# Altium footprint library myLIB.PcbLib: 150 footprints (part 2 of 10)
Each footprint in its own frame and in the unit in brackets; x right, y up, seen from the top. Pads: shape width x height; smd on the part's side, far side on the other; paste and mask are expansions set on the pad; w line width, h text height; cw(c..) or ccw(c..) is an arc to the next point about the centre after c.
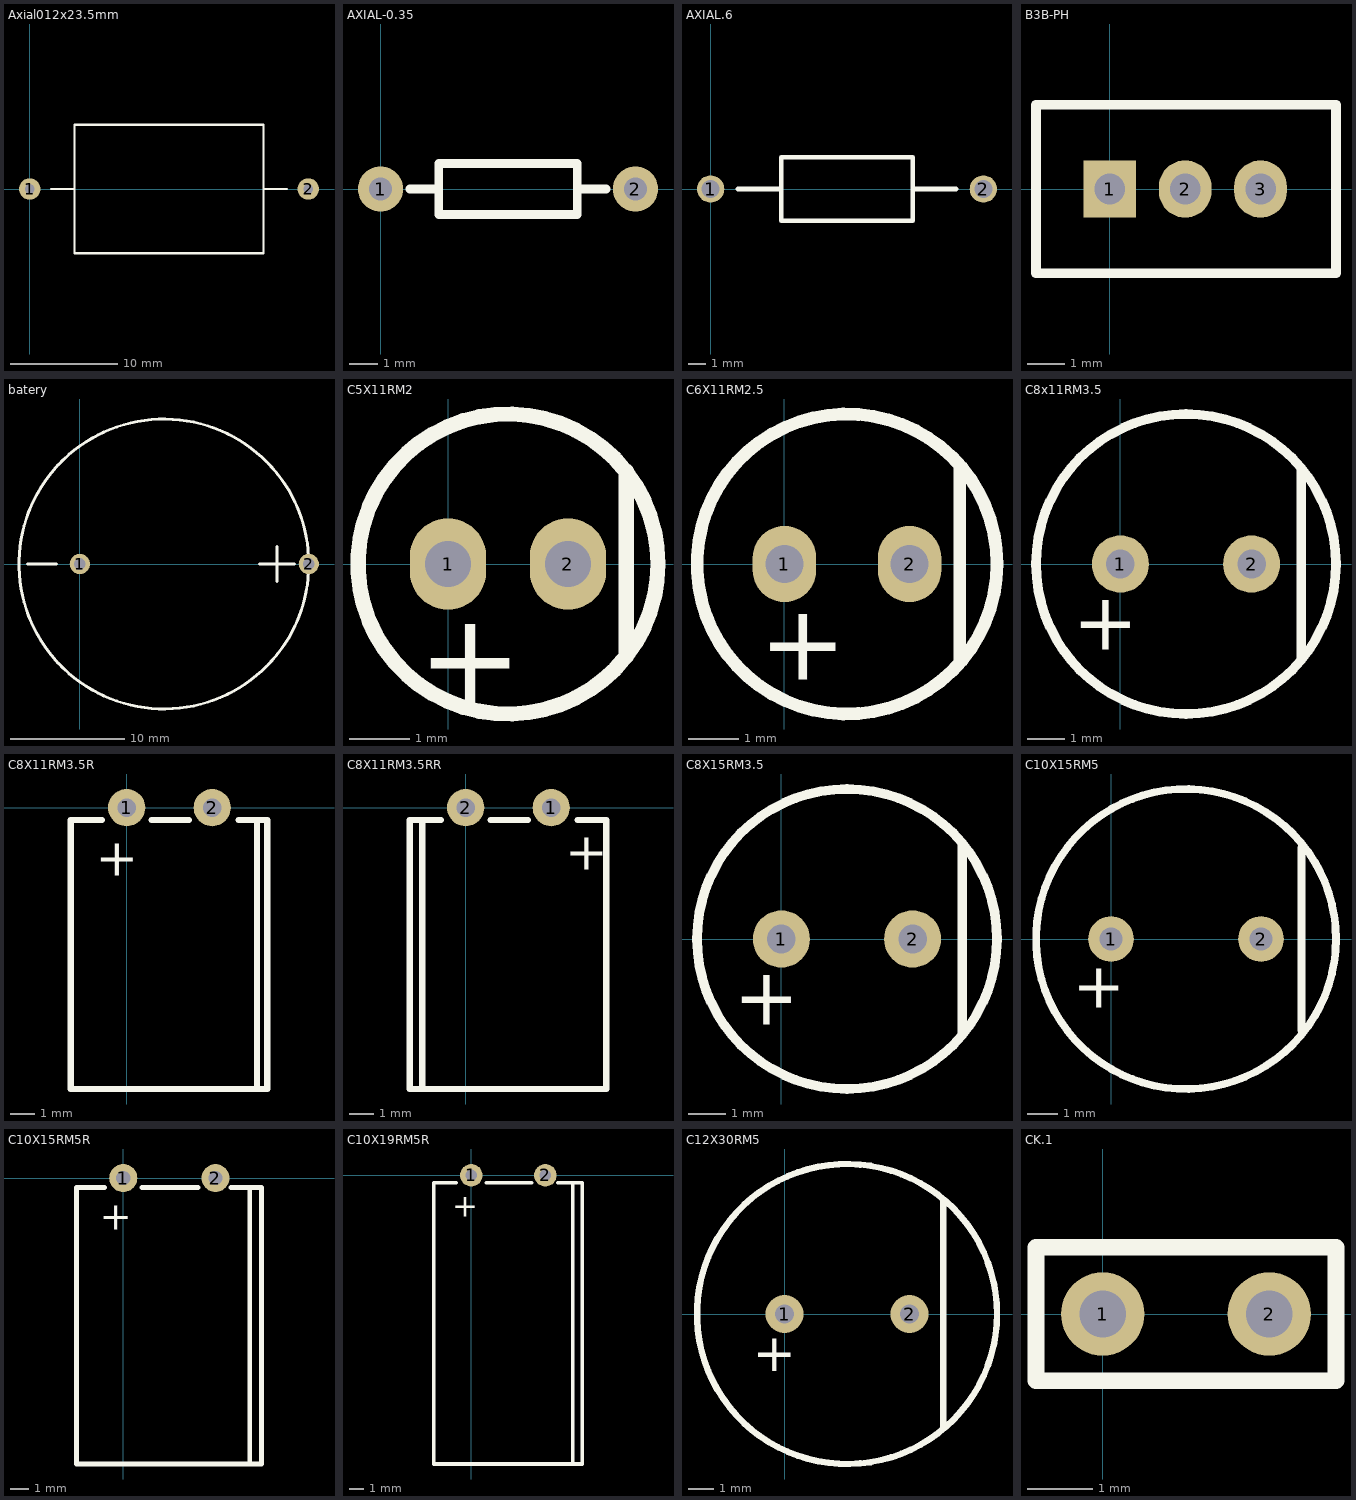
[diagram p1: the footprints below, top view; thin cyan lines are the x and y axes]

## Axial012x23.5mm [mm]
pads (2):
  round 2 hole 0.9: 1(0,0) 2(26,0)
TopOverlay:
  lines w0.2: 2,0 4.175,0 ; 21.825,0 24,0 ; 4.175,0 4.175,6 21.825,6 21.825,-6 4.175,-6 4.175,0

## AXIAL-0.35 [mil]
pads (2):
  round 62 hole 32: 1(0,0) 2(350,0)
TopOverlay:
  lines w12: 40,0 80,0 ; 270,0 310,0 ; 80,-35 270,-35 270,35 80,35 80,-35

## AXIAL.6 [mil]
pads (2):
  round 60 hole 40: 1(0,0) 2(600,0)
TopOverlay:
  lines w10: 60,0 155,0 ; 445,0 540,0 ; 155,0 155,-70 445,-70 445,70 155,70 155,0

## B3B-PH [mil]
pads (3):
  rect 55x60 hole 32: 1(0,0)
  oval 55x60 hole 32: 2(78.74,0) 3(157.48,0)
TopOverlay:
  lines w10: 236,-88 -77,-88 -77,88 236,88 ; 236.22,-88 236.22,88

## batery [mil]
pads (2):
  round 70 hole 40: 1(0,0) 2(790,0)
TopOverlay:
  circle w10: c290,0 r500
  lines w10: -180,0 -80,0 ; 620,0 740,0 ; 680,-60 680,60

## C5X11RM2 [mil]
pads (2):
  oval 50x60 hole 30: 1(0,0) 2(78.74,0)
TopOverlay:
  circle w10: c39.37,0 r98.43
  lines w10: 117,-60 117,61
  text "+" at -20,-91 h60

## C6X11RM2.5 [mil]
pads (2):
  oval 50x60 hole 30: 1(0,0) 2(98.43,0)
TopOverlay:
  circle w10: c49.21,0 r118.11
  lines w10: 138,-74 138,77
  text "+" at -20,-91 h60

## C8x11RM3.5 [mil]
pads (2):
  round 60 hole 30: 1(0,0) 2(137.79,0)
TopOverlay:
  circle w10: c68.9,0 r157.48
  lines w10: 190,-100 190,100
  text "+" at -50,-90 h60

## C8X11RM3.5R [mil]
pads (2):
  round 60 hole 30: 1(0,0) 2(137.79,0)
TopOverlay:
  lines w10: -40,-20 -90,-20 -90,-453.07 226.38,-453.07 226.38,-20 180,-20 ; 40,-20 100,-20 ; 210,-453.07 210,-20
  text "+" at -50,-110 h60

## C8X11RM3.5RR [mil]
pads (2):
  round 60 hole 30: 1(137.79,0) 2(0,0)
TopOverlay:
  lines w10: -70,-453.07 -70,-20 ; -40,-20 -90,-20 -90,-453.07 226.38,-453.07 226.38,-20 180,-20 ; 40,-20 100,-20
  text "+" at 160,-100 h60

## C8X15RM3.5 [mil]
pads (2):
  round 60 hole 30: 1(0,0) 2(137.79,0)
TopOverlay:
  circle w10: c68.9,0 r157.48
  lines w10: 190,-100 190,100
  text "+" at -50,-90 h60

## C10X15RM5 [mil]
pads (2):
  round 60 hole 30: 1(0,0) 2(196.85,0)
TopOverlay:
  circle w10: c98.43,0 r196.85
  lines w10: 250,-120 250,120
  text "+" at -50,-90 h60

## C10X15RM5R [mil]
pads (2):
  round 60 hole 30: 1(0,0) 2(196.85,0)
TopOverlay:
  lines w10: -40,-20 -100,-20 -100,-610.55 295.28,-610.55 295.28,-20 230,-20 ; 40,-20 160,-20 ; 270,-610.55 270,-20
  text "+" at -50,-110 h60

## C10X19RM5R [mil]
pads (2):
  round 60 hole 30: 1(0,0) 2(196.85,0)
TopOverlay:
  lines w10: -40,-20 -100,-20 -100,-767.72 295.28,-767.72 295.28,-20 230,-20 ; 40,-20 160,-20 ; 270,-767.72 270,-20
  text "+" at -50,-110 h60

## C12X30RM5 [mil]
pads (2):
  round 60 hole 30: 1(0,0) 2(196.85,0)
TopOverlay:
  circle w10: c98.42,0 r236.22
  lines w10: 250,-180 250,180
  text "+" at -50,-90 h60

## CK.1 [mil]
pads (2):
  round 50 hole 28: 1(0,0) 2(100,0)
TopOverlay:
  lines w10: -40,-40 -40,40 140,40 140,-40 -40,-40